# EAGLE library part PINHD-1X12-SMD (library mbed-HDK-Connector)
Pin Header for SMD x12
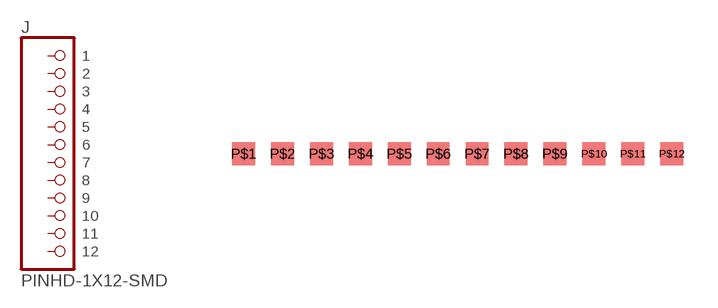
[diagram p11: symbol with the pads of 1X12-SMD; footprint 1X12-SMD]

Designator prefix J

## PINHD-1X12-SMD  [1X12-SMD]
P$1  1  pas
P$2  2  pas
P$3  3  pas
P$4  4  pas
P$5  5  pas
P$6  6  pas
P$7  7  pas
P$8  8  pas
P$9  9  pas
P$10  10  pas
P$11  11  pas
P$12  12  pas

## Footprint 1X12-SMD (pad centres in mm)
smd 1 x 1: P$1 0,0; P$2 1.7,0; P$3 3.4,0; P$4 5.1,0; P$5 6.8,0; P$6 8.5,0; P$7 10.2,0; P$8 11.9,0; P$9 13.6,0; P$10 15.3,0; P$11 17,0; P$12 18.7,0